# Altium integrated library Gennum Video Multiplexer.IntLib: 22 symbols
Pins are listed as number, name and electrical type; pins without a type are passive.

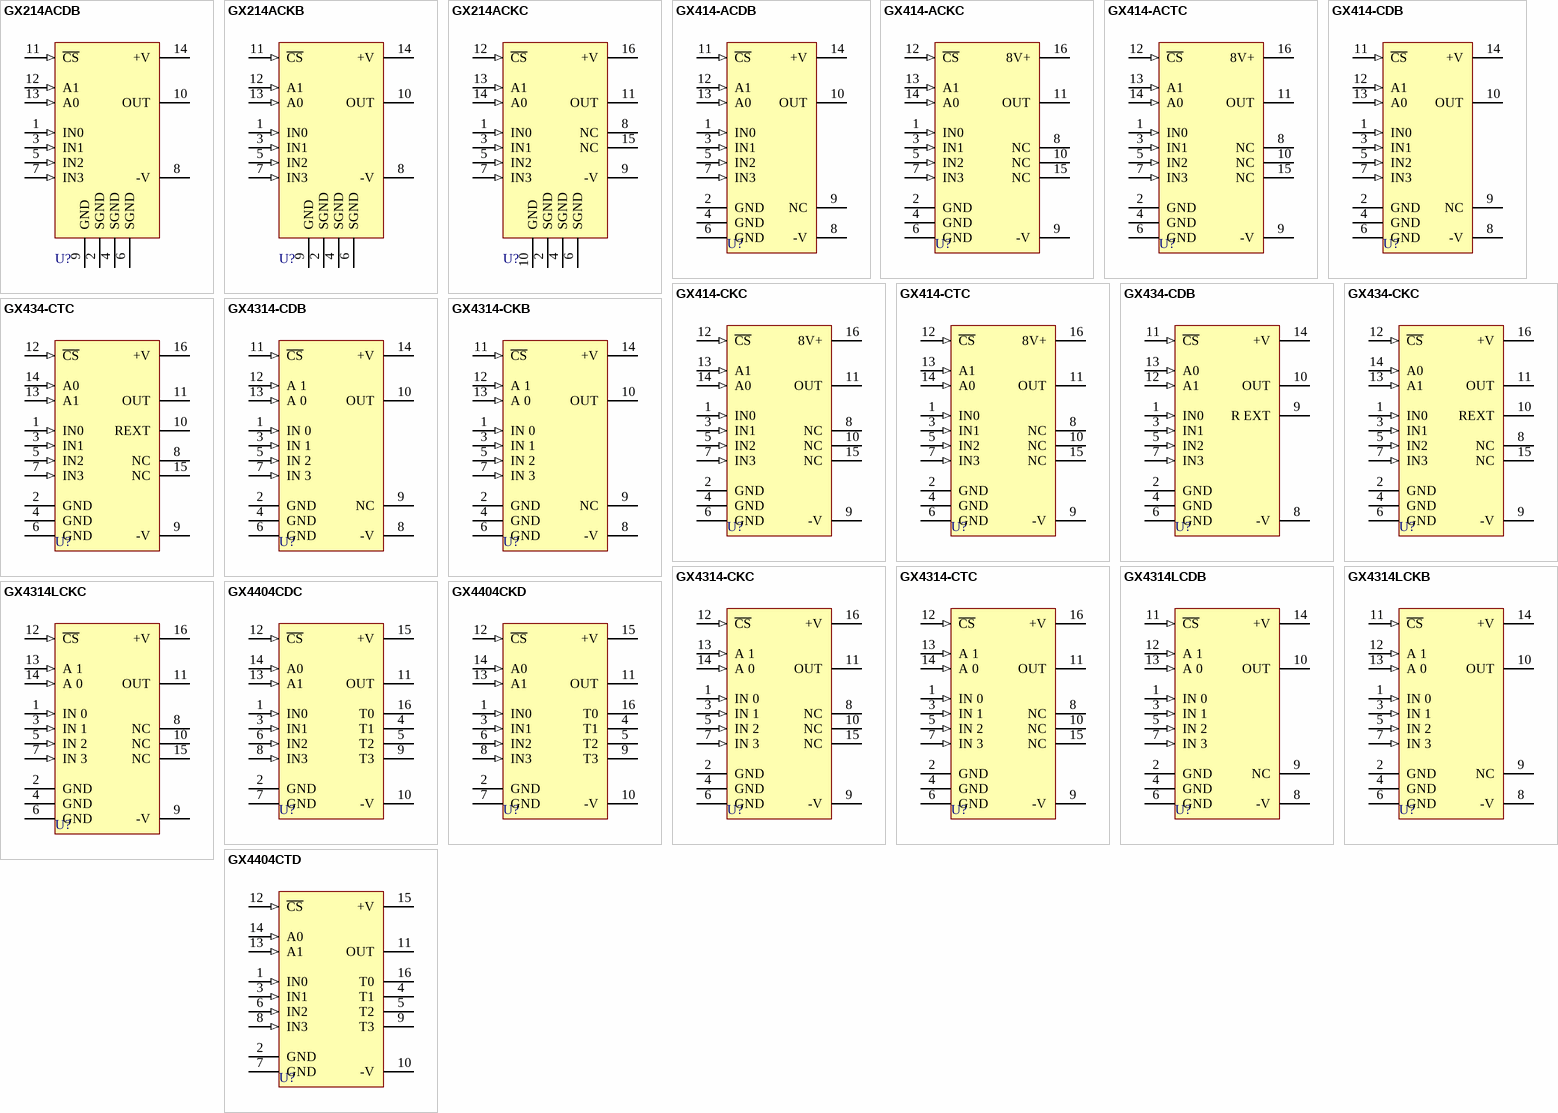
[diagram p0: symbols GX214ACDB to GX4404CTD]

## GX214ACDB
designator U?
Monolithic 4x1 Video Multiplexer; Note: pins 2,4 and 6 must be joined together; Published: 8-Jun-2000; LatestRevisionDate: 04-Mar-2005; LatestRevisionNote: Stylized 3D Model Added.; DatasheetVersion: Feb-1993; PackageVersion: 1999; PackageReference: PDIP14; Publisher: Altium Limited; PackageDescription: DIP; 14 Leads; Row Spacing 7.62 mm; Pitch 2.54 mm; ComponentLink1Description: Manufacturer Link; ComponentLink1URL: http://www.gennum.com/index.html; ComponentLink2Description: Datasheet; ComponentLink2URL: http://www.gennum.com/vb/pdffiles/52005DOC.pdf
footprint PDIP14 (DIP; 14 Leads; Row Spacing 7.62 mm; Pitch 2.54 mm)
3D model PDIP14 (DIP; 14 Leads; Row Spacing 7.62 mm; Pitch 2.54 mm)
pins: 1 IN0 (in), 2 SGND (power), 3 IN1 (in), 4 SGND (power), 5 IN2 (in), 6 SGND (power), 7 IN3 (in), 8 -V (power), 9 GND (power), 10 OUT (hiz), 11 ~{CS} (in), 12 A1 (in), 13 A0 (in), 14 +V (power)

## GX214ACKB
designator U?
Monolithic 4x1 Video Multiplexer; Note: pins 2,4 and 6 must be joined together; Published: 8-Jun-2000; LatestRevisionDate: 13-Apr-2006; LatestRevisionNote: IPC-7351 Footprint Added.; DatasheetVersion: Feb-1993; PackageReference: SOIC14; Publisher: Altium Limited; PackageDescription: 14-Pin Small Outline Integrated Circuit 1.27 mm Pitch; Code_JEDEC: MS-012-AB; Code_IPC: SOIC127P600-14; ComponentLink1Description: Manufacturer Link; ComponentLink1URL: http://www.gennum.com/index.html; ComponentLink2Description: Datasheet; ComponentLink2URL: http://www.gennum.com/vb/pdffiles/52005DOC.pdf
footprint SOIC14_N (SOIC, 14-Leads, Body 8.7x3.9mm, Pitch 1.27mm, IPC Medium Density)
footprint SOIC14_L (SOIC, 14-Leads, Body 8.7x3.9mm, Pitch 1.27mm, IPC High Density)
footprint SOIC14_M (SOIC, 14-Leads, Body 8.7x3.9mm, Pitch 1.27mm, IPC Low Density)
3D model SOIC14 (14-Pin Small Outline Integrated Circuit 1.27 mm Pitch)
pins: 1 IN0 (in), 2 SGND (power), 3 IN1 (in), 4 SGND (power), 5 IN2 (in), 6 SGND (power), 7 IN3 (in), 8 -V (power), 9 GND (power), 10 OUT (hiz), 11 ~{CS} (in), 12 A1 (in), 13 A0 (in), 14 +V (power)

## GX214ACKC
designator U?
Monolithic 4x1 Video Multiplexer; Note: pins 2,4 and 6 must be joined together; Published: 8-Jun-2000; LatestRevisionDate: 13-Apr-2006; LatestRevisionNote: IPC-7351 Footprint Added.; DatasheetVersion: Feb-1993; PackageReference: SOIC16; Publisher: Altium Limited; PackageDescription: 16-Pin Small Outline Integrated Circuit 1.27 mm Pitch; Code_JEDEC: MS-012-AC; Code_IPC: SOIC127P600-16; ComponentLink1Description: Manufacturer Link; ComponentLink1URL: http://www.gennum.com/index.html; ComponentLink2Description: Datasheet; ComponentLink2URL: http://www.gennum.com/vb/pdffiles/52005DOC.pdf
footprint SOIC16_N (SOIC, 16-Leads, Body 9.9x3.9mm, Pitch 1.27mm, IPC Medium Density)
footprint SOIC16_L (SOIC, 16-Leads, Body 9.9x3.9mm, Pitch 1.27mm, IPC High Density)
footprint SOIC16_M (SOIC, 16-Leads, Body 9.9x3.9mm, Pitch 1.27mm, IPC Low Density)
3D model SOIC16 (16-Pin Small Outline Integrated Circuit 1.27 mm Pitch)
pins: 1 IN0 (in), 2 SGND (power), 3 IN1 (in), 4 SGND (power), 5 IN2 (in), 6 SGND (power), 7 IN3 (in), 8 NC, 9 -V (power), 10 GND (power), 11 OUT (hiz), 12 ~{CS} (in), 13 A1 (in), 14 A0 (in), 15 NC, 16 +V (power)

## GX414-ACDB
designator U?
Monolithic 4x1 Video Multiplexer; Note: pin 9 is No Connection; Published: 8-Jun-2000; LatestRevisionDate: 04-Mar-2005; LatestRevisionNote: Stylized 3D Model Added.; PackageVersion: 1999; PackageReference: PDIP14; Publisher: Altium Limited; PackageDescription: DIP; 14 Leads; Row Spacing 7.62 mm; Pitch 2.54 mm; ComponentLink1Description: Manufacturer Link; ComponentLink1URL: http://www.gennum.com/index.html; ComponentLink2Description: Application Note; ComponentLink2URL: http://www.gennum.com/vb/pdffiles/51039DOC.pdf
footprint PDIP14 (DIP; 14 Leads; Row Spacing 7.62 mm; Pitch 2.54 mm)
3D model PDIP14 (DIP; 14 Leads; Row Spacing 7.62 mm; Pitch 2.54 mm)
pins: 1 IN0 (in), 2 GND (power), 3 IN1 (in), 4 GND (power), 5 IN2 (in), 6 GND (power), 7 IN3 (in), 8 -V (power), 9 NC, 10 OUT (hiz), 11 ~{CS} (in), 12 A1 (in), 13 A0 (in), 14 +V (power)

## GX414-ACKC
designator U?
Monolithic 4x1 Video Multiplexer; Note: Pins 8,10,15 are No Connection; Published: 8-Jun-2000; LatestRevisionDate: 13-Apr-2006; LatestRevisionNote: IPC-7351 Footprint Added.; PackageReference: SOIC16; Publisher: Altium Limited; PackageDescription: 16-Pin Small Outline Integrated Circuit 1.27 mm Pitch; Code_JEDEC: MS-012-AC; Code_IPC: SOIC127P600-16; ComponentLink1Description: Manufacturer Link; ComponentLink1URL: http://www.gennum.com/index.html; ComponentLink2Description: Application Note; ComponentLink2URL: http://www.gennum.com/vb/pdffiles/51039DOC.pdf
footprint SOIC16_N (SOIC, 16-Leads, Body 9.9x3.9mm, Pitch 1.27mm, IPC Medium Density)
footprint SOIC16_L (SOIC, 16-Leads, Body 9.9x3.9mm, Pitch 1.27mm, IPC High Density)
footprint SOIC16_M (SOIC, 16-Leads, Body 9.9x3.9mm, Pitch 1.27mm, IPC Low Density)
3D model SOIC16 (16-Pin Small Outline Integrated Circuit 1.27 mm Pitch)
pins: 1 IN0 (in), 2 GND (power), 3 IN1 (in), 4 GND (power), 5 IN2 (in), 6 GND (power), 7 IN3 (in), 8 NC, 9 -V (power), 10 NC, 11 OUT (hiz), 12 ~{CS} (in), 13 A1 (in), 14 A0 (in), 15 NC, 16 8V+ (power)

## GX414-ACTC
designator U?
Monolithic 4x1 Video Multiplexer; Note: Pins 8,10,15 are No Connection; Published: 8-Jun-2000; LatestRevisionDate: 13-Apr-2006; LatestRevisionNote: IPC-7351 Footprint Added.; PackageReference: SOIC16T; Publisher: Altium Limited; PackageDescription: 16-Pin Small Outline Integrated Circuit 1.27 mm Pitch; Code_JEDEC: MS-012-AC; Code_IPC: SOIC127P600-16; ComponentLink1Description: Manufacturer Link; ComponentLink1URL: http://www.gennum.com/index.html; ComponentLink2Description: Application Note; ComponentLink2URL: http://www.gennum.com/vb/pdffiles/51039DOC.pdf
footprint SOIC16T_N (SOIC, 16-Leads, Body 9.9x3.9mm, Pitch 1.27mm, IPC Medium Density)
footprint SOIC16T_L (SOIC, 16-Leads, Body 9.9x3.9mm, Pitch 1.27mm, IPC High Density)
footprint SOIC16T_M (SOIC, 16-Leads, Body 9.9x3.9mm, Pitch 1.27mm, IPC Low Density)
3D model SOIC16 (16-Pin Small Outline Integrated Circuit 1.27 mm Pitch)
pins: 1 IN0 (in), 2 GND (power), 3 IN1 (in), 4 GND (power), 5 IN2 (in), 6 GND (power), 7 IN3 (in), 8 NC, 9 -V (power), 10 NC, 11 OUT (hiz), 12 ~{CS} (in), 13 A1 (in), 14 A0 (in), 15 NC, 16 8V+ (power)

## GX414-CDB
designator U?
Monolithic 4x1 Video Multiplexer; Note: pin 9 is No Connection; Published: 8-Jun-2000; LatestRevisionDate: 04-Mar-2005; LatestRevisionNote: Stylized 3D Model Added.; PackageVersion: 1999; PackageReference: PDIP14; Publisher: Altium Limited; PackageDescription: DIP; 14 Leads; Row Spacing 7.62 mm; Pitch 2.54 mm; ComponentLink1Description: Manufacturer Link; ComponentLink1URL: http://www.gennum.com/index.html; ComponentLink2Description: Application Note; ComponentLink2URL: http://www.gennum.com/vb/pdffiles/51039DOC.pdf
footprint PDIP14 (DIP; 14 Leads; Row Spacing 7.62 mm; Pitch 2.54 mm)
3D model PDIP14 (DIP; 14 Leads; Row Spacing 7.62 mm; Pitch 2.54 mm)
pins: 1 IN0 (in), 2 GND (power), 3 IN1 (in), 4 GND (power), 5 IN2 (in), 6 GND (power), 7 IN3 (in), 8 -V (power), 9 NC, 10 OUT (hiz), 11 ~{CS} (in), 12 A1 (in), 13 A0 (in), 14 +V (power)

## GX414-CKC
designator U?
Monolithic 4x1 Video Multiplexer; Note: Pins 8,10,15 are No Connection; Published: 8-Jun-2000; LatestRevisionDate: 13-Apr-2006; LatestRevisionNote: IPC-7351 Footprint Added.; PackageReference: SOIC16; Publisher: Altium Limited; PackageDescription: 16-Pin Small Outline Integrated Circuit 1.27 mm Pitch; Code_JEDEC: MS-012-AC; Code_IPC: SOIC127P600-16; ComponentLink1Description: Manufacturer Link; ComponentLink1URL: http://www.gennum.com/index.html; ComponentLink2Description: Application Note; ComponentLink2URL: http://www.gennum.com/vb/pdffiles/51039DOC.pdf
footprint SOIC16_N (SOIC, 16-Leads, Body 9.9x3.9mm, Pitch 1.27mm, IPC Medium Density)
footprint SOIC16_L (SOIC, 16-Leads, Body 9.9x3.9mm, Pitch 1.27mm, IPC High Density)
footprint SOIC16_M (SOIC, 16-Leads, Body 9.9x3.9mm, Pitch 1.27mm, IPC Low Density)
3D model SOIC16 (16-Pin Small Outline Integrated Circuit 1.27 mm Pitch)
pins: 1 IN0 (in), 2 GND (power), 3 IN1 (in), 4 GND (power), 5 IN2 (in), 6 GND (power), 7 IN3 (in), 8 NC, 9 -V (power), 10 NC, 11 OUT (hiz), 12 ~{CS} (in), 13 A1 (in), 14 A0 (in), 15 NC, 16 8V+ (power)

## GX414-CTC
designator U?
Monolithic 4x1 Video Multiplexer; Note: Pins 8,10,15 are No Connection; Published: 8-Jun-2000; LatestRevisionDate: 13-Apr-2006; LatestRevisionNote: IPC-7351 Footprint Added.; PackageReference: SOIC16T; Publisher: Altium Limited; PackageDescription: 16-Pin Small Outline Integrated Circuit 1.27 mm Pitch; Code_JEDEC: MS-012-AC; Code_IPC: SOIC127P600-16; ComponentLink1Description: Manufacturer Link; ComponentLink1URL: http://www.gennum.com/index.html; ComponentLink2Description: Application Note; ComponentLink2URL: http://www.gennum.com/vb/pdffiles/51039DOC.pdf
footprint SOIC16T_N (SOIC, 16-Leads, Body 9.9x3.9mm, Pitch 1.27mm, IPC Medium Density)
footprint SOIC16T_L (SOIC, 16-Leads, Body 9.9x3.9mm, Pitch 1.27mm, IPC High Density)
footprint SOIC16T_M (SOIC, 16-Leads, Body 9.9x3.9mm, Pitch 1.27mm, IPC Low Density)
3D model SOIC16 (16-Pin Small Outline Integrated Circuit 1.27 mm Pitch)
pins: 1 IN0 (in), 2 GND (power), 3 IN1 (in), 4 GND (power), 5 IN2 (in), 6 GND (power), 7 IN3 (in), 8 NC, 9 -V (power), 10 NC, 11 OUT (hiz), 12 ~{CS} (in), 13 A1 (in), 14 A0 (in), 15 NC, 16 8V+ (power)

## GX434-CDB
designator U?
Monolithic 4x1 Video Multiplexer; Published: 8-Jun-2000; LatestRevisionDate: 04-Mar-2005; LatestRevisionNote: Stylized 3D Model Added.; DatasheetVersion: Jan-1993; PackageVersion: 1999; PackageReference: PDIP14; Publisher: Altium Limited; PackageDescription: DIP; 14 Leads; Row Spacing 7.62 mm; Pitch 2.54 mm; ComponentLink1Description: Manufacturer Link; ComponentLink1URL: http://www.gennum.com/index.html; ComponentLink2Description: Datasheet; ComponentLink2URL: http://www.gennum.com/vb/pdffiles/51034DOC.pdf
footprint PDIP14 (DIP; 14 Leads; Row Spacing 7.62 mm; Pitch 2.54 mm)
3D model PDIP14 (DIP; 14 Leads; Row Spacing 7.62 mm; Pitch 2.54 mm)
pins: 1 IN0 (in), 2 GND (power), 3 IN1 (in), 4 GND (power), 5 IN2 (in), 6 GND (power), 7 IN3 (in), 8 -V (power), 9 R EXT, 10 OUT (hiz), 11 ~{CS} (in), 12 A1 (in), 13 A0 (in), 14 +V (power)

## GX434-CKC
designator U?
Monolithic 4x1 Video Multiplexer; Note: Pins 8,15 are No Connection; Published: 8-Jun-2000; LatestRevisionDate: 13-Apr-2006; LatestRevisionNote: IPC-7351 Footprint Added.; DatasheetVersion: Jan-1993; PackageReference: SOIC16; Publisher: Altium Limited; PackageDescription: 16-Pin Small Outline Integrated Circuit 1.27 mm Pitch; Code_JEDEC: MS-012-AC; Code_IPC: SOIC127P600-16; ComponentLink1Description: Manufacturer Link; ComponentLink1URL: http://www.gennum.com/index.html; ComponentLink2Description: Datasheet; ComponentLink2URL: http://www.gennum.com/vb/pdffiles/51034DOC.pdf
footprint SOIC16_N (SOIC, 16-Leads, Body 9.9x3.9mm, Pitch 1.27mm, IPC Medium Density)
footprint SOIC16_L (SOIC, 16-Leads, Body 9.9x3.9mm, Pitch 1.27mm, IPC High Density)
footprint SOIC16_M (SOIC, 16-Leads, Body 9.9x3.9mm, Pitch 1.27mm, IPC Low Density)
3D model SOIC16 (16-Pin Small Outline Integrated Circuit 1.27 mm Pitch)
pins: 1 IN0 (in), 2 GND (power), 3 IN1 (in), 4 GND (power), 5 IN2 (in), 6 GND (power), 7 IN3 (in), 8 NC, 9 -V (power), 10 REXT, 11 OUT (hiz), 12 ~{CS} (in), 13 A1 (in), 14 A0 (in), 15 NC, 16 +V (power)

## GX434-CTC
designator U?
Monolithic 4x1 Video Multiplexer; Note: Pins 8,15 are No Connection; Published: 8-Jun-2000; LatestRevisionDate: 13-Apr-2006; LatestRevisionNote: IPC-7351 Footprint Added.; DatasheetVersion: Jan-1993; PackageReference: SOIC16T; Publisher: Altium Limited; PackageDescription: 16-Pin Small Outline Integrated Circuit 1.27 mm Pitch; Code_JEDEC: MS-012-AC; Code_IPC: SOIC127P600-16; ComponentLink1Description: Manufacturer Link; ComponentLink1URL: http://www.gennum.com/index.html; ComponentLink2Description: Datasheet; ComponentLink2URL: http://www.gennum.com/vb/pdffiles/51034DOC.pdf
footprint SOIC16T_N (SOIC, 16-Leads, Body 9.9x3.9mm, Pitch 1.27mm, IPC Medium Density)
footprint SOIC16T_L (SOIC, 16-Leads, Body 9.9x3.9mm, Pitch 1.27mm, IPC High Density)
footprint SOIC16T_M (SOIC, 16-Leads, Body 9.9x3.9mm, Pitch 1.27mm, IPC Low Density)
3D model SOIC16 (16-Pin Small Outline Integrated Circuit 1.27 mm Pitch)
pins: 1 IN0 (in), 2 GND (power), 3 IN1 (in), 4 GND (power), 5 IN2 (in), 6 GND (power), 7 IN3 (in), 8 NC, 9 -V (power), 10 REXT, 11 OUT (hiz), 12 ~{CS} (in), 13 A1 (in), 14 A0 (in), 15 NC, 16 +V (power)

## GX4314-CDB
designator U?
Wideband, Monolithic 4x1 Video Multiplexer; Note: pin 9 is No Connection; Published: 8-Jun-2000; LatestRevisionDate: 04-Mar-2005; LatestRevisionNote: Stylized 3D Model Added.; DatasheetVersion: Dec-1993; PackageVersion: 1999; PackageReference: PDIP14; Publisher: Altium Limited; PackageDescription: DIP; 14 Leads; Row Spacing 7.62 mm; Pitch 2.54 mm; ComponentLink1Description: Manufacturer Link; ComponentLink1URL: http://www.gennum.com/index.html; ComponentLink2Description: Datasheet; ComponentLink2URL: http://www.gennum.com/vb/pdffiles/52042DOC.pdf
footprint PDIP14 (DIP; 14 Leads; Row Spacing 7.62 mm; Pitch 2.54 mm)
3D model PDIP14 (DIP; 14 Leads; Row Spacing 7.62 mm; Pitch 2.54 mm)
pins: 1 IN 0 (in), 2 GND (power), 3 IN 1 (in), 4 GND (power), 5 IN 2 (in), 6 GND (power), 7 IN 3 (in), 8 -V (power), 9 NC, 10 OUT (hiz), 11 ~{CS} (in), 12 A 1 (in), 13 A 0 (in), 14 +V (power)

## GX4314-CKB
designator U?
Wideband, Monolithic 4x1 Video Multiplexer; Note: pin 9 is No Connection; Published: 8-Jun-2000; LatestRevisionDate: 13-Apr-2006; LatestRevisionNote: IPC-7351 Footprint Added.; DatasheetVersion: Dec-1993; PackageReference: SOIC14; Publisher: Altium Limited; PackageDescription: 14-Pin Small Outline Integrated Circuit 1.27 mm Pitch; Code_JEDEC: MS-012-AB; Code_IPC: SOIC127P600-14; ComponentLink1Description: Manufacturer Link; ComponentLink1URL: http://www.gennum.com/index.html; ComponentLink2Description: Datasheet; ComponentLink2URL: http://www.gennum.com/vb/pdffiles/52042DOC.pdf
footprint SOIC14_N (SOIC, 14-Leads, Body 8.7x3.9mm, Pitch 1.27mm, IPC Medium Density)
footprint SOIC14_L (SOIC, 14-Leads, Body 8.7x3.9mm, Pitch 1.27mm, IPC High Density)
footprint SOIC14_M (SOIC, 14-Leads, Body 8.7x3.9mm, Pitch 1.27mm, IPC Low Density)
3D model SOIC14 (14-Pin Small Outline Integrated Circuit 1.27 mm Pitch)
pins: 1 IN 0 (in), 2 GND (power), 3 IN 1 (in), 4 GND (power), 5 IN 2 (in), 6 GND (power), 7 IN 3 (in), 8 -V (power), 9 NC, 10 OUT (hiz), 11 ~{CS} (in), 12 A 1 (in), 13 A 0 (in), 14 +V (power)

## GX4314-CKC
designator U?
Wideband, Monolithic 4x1 Video Multiplexer; Note: Pins 8,10,15 are No Connection; Published: 8-Jun-2000; LatestRevisionDate: 13-Apr-2006; LatestRevisionNote: IPC-7351 Footprint Added.; DatasheetVersion: Dec-1993; PackageReference: SOIC16; Publisher: Altium Limited; PackageDescription: 16-Pin Small Outline Integrated Circuit 1.27 mm Pitch; Code_JEDEC: MS-012-AC; Code_IPC: SOIC127P600-16; ComponentLink1Description: Manufacturer Link; ComponentLink1URL: http://www.gennum.com/index.html; ComponentLink2Description: Datasheet; ComponentLink2URL: http://www.gennum.com/vb/pdffiles/52042DOC.pdf
footprint SOIC16_N (SOIC, 16-Leads, Body 9.9x3.9mm, Pitch 1.27mm, IPC Medium Density)
footprint SOIC16_L (SOIC, 16-Leads, Body 9.9x3.9mm, Pitch 1.27mm, IPC High Density)
footprint SOIC16_M (SOIC, 16-Leads, Body 9.9x3.9mm, Pitch 1.27mm, IPC Low Density)
3D model SOIC16 (16-Pin Small Outline Integrated Circuit 1.27 mm Pitch)
pins: 1 IN 0 (in), 2 GND (power), 3 IN 1 (in), 4 GND (power), 5 IN 2 (in), 6 GND (power), 7 IN 3 (in), 8 NC, 9 -V (power), 10 NC, 11 OUT (hiz), 12 ~{CS} (in), 13 A 1 (in), 14 A 0 (in), 15 NC, 16 +V (power)

## GX4314-CTC
designator U?
Wideband, Monolithic 4x1 Video Multiplexer; Note: Pins 8,10,15 are No Connection; Published: 8-Jun-2000; LatestRevisionDate: 13-Apr-2006; LatestRevisionNote: IPC-7351 Footprint Added.; DatasheetVersion: Dec-1993; PackageReference: SOIC16T; Publisher: Altium Limited; PackageDescription: 16-Pin Small Outline Integrated Circuit 1.27 mm Pitch; Code_JEDEC: MS-012-AC; Code_IPC: SOIC127P600-16; ComponentLink1Description: Manufacturer Link; ComponentLink1URL: http://www.gennum.com/index.html; ComponentLink2Description: Datasheet; ComponentLink2URL: http://www.gennum.com/vb/pdffiles/52042DOC.pdf
footprint SOIC16T_N (SOIC, 16-Leads, Body 9.9x3.9mm, Pitch 1.27mm, IPC Medium Density)
footprint SOIC16T_L (SOIC, 16-Leads, Body 9.9x3.9mm, Pitch 1.27mm, IPC High Density)
footprint SOIC16T_M (SOIC, 16-Leads, Body 9.9x3.9mm, Pitch 1.27mm, IPC Low Density)
3D model SOIC16 (16-Pin Small Outline Integrated Circuit 1.27 mm Pitch)
pins: 1 IN 0 (in), 2 GND (power), 3 IN 1 (in), 4 GND (power), 5 IN 2 (in), 6 GND (power), 7 IN 3 (in), 8 NC, 9 -V (power), 10 NC, 11 OUT (hiz), 12 ~{CS} (in), 13 A 1 (in), 14 A 0 (in), 15 NC, 16 +V (power)

## GX4314LCDB
designator U?
Low Power,Wideband 4x1 video Multiplexer; Note: pin 9 is No Connection; Published: 8-Jun-2000; LatestRevisionDate: 04-Mar-2005; LatestRevisionNote: Stylized 3D Model Added.; PackageVersion: 1999; PackageReference: PDIP14; Publisher: Altium Limited; PackageDescription: DIP; 14 Leads; Row Spacing 7.62 mm; Pitch 2.54 mm; ComponentLink1Description: Manufacturer Link; ComponentLink1URL: http://www.gennum.com/index.html; ComponentLink2Description: Datasheet; ComponentLink2URL: http://www.gennum.com/vb/pdffiles/52054DOC.pdf
footprint PDIP14 (DIP; 14 Leads; Row Spacing 7.62 mm; Pitch 2.54 mm)
3D model PDIP14 (DIP; 14 Leads; Row Spacing 7.62 mm; Pitch 2.54 mm)
pins: 1 IN 0 (in), 2 GND (power), 3 IN 1 (in), 4 GND (power), 5 IN 2 (in), 6 GND (power), 7 IN 3 (in), 8 -V (power), 9 NC, 10 OUT (hiz), 11 ~{CS} (in), 12 A 1 (in), 13 A 0 (in), 14 +V (power)

## GX4314LCKB
designator U?
Low Power,Wideband 4x1 video Multiplexer; Note: pin 9 is No Connection; Published: 8-Jun-2000; LatestRevisionDate: 13-Apr-2006; LatestRevisionNote: IPC-7351 Footprint Added.; PackageReference: SOIC14; Publisher: Altium Limited; PackageDescription: 14-Pin Small Outline Integrated Circuit 1.27 mm Pitch; Code_JEDEC: MS-012-AB; Code_IPC: SOIC127P600-14; ComponentLink1Description: Manufacturer Link; ComponentLink1URL: http://www.gennum.com/index.html; ComponentLink2Description: Datasheet; ComponentLink2URL: http://www.gennum.com/vb/pdffiles/52054DOC.pdf
footprint SOIC14_N (SOIC, 14-Leads, Body 8.7x3.9mm, Pitch 1.27mm, IPC Medium Density)
footprint SOIC14_L (SOIC, 14-Leads, Body 8.7x3.9mm, Pitch 1.27mm, IPC High Density)
footprint SOIC14_M (SOIC, 14-Leads, Body 8.7x3.9mm, Pitch 1.27mm, IPC Low Density)
3D model SOIC14 (14-Pin Small Outline Integrated Circuit 1.27 mm Pitch)
pins: 1 IN 0 (in), 2 GND (power), 3 IN 1 (in), 4 GND (power), 5 IN 2 (in), 6 GND (power), 7 IN 3 (in), 8 -V (power), 9 NC, 10 OUT (hiz), 11 ~{CS} (in), 12 A 1 (in), 13 A 0 (in), 14 +V (power)

## GX4314LCKC
designator U?
Low Power,Wideband 4x1 video Multiplexer; Note: Pins 8,10,15 are No Connection; Published: 8-Jun-2000; LatestRevisionDate: 13-Apr-2006; LatestRevisionNote: IPC-7351 Footprint Added.; PackageReference: SOIC16; Publisher: Altium Limited; PackageDescription: 16-Pin Small Outline Integrated Circuit 1.27 mm Pitch; Code_JEDEC: MS-012-AC; Code_IPC: SOIC127P600-16; ComponentLink1Description: Manufacturer Link; ComponentLink1URL: http://www.gennum.com/index.html; ComponentLink2Description: Datasheet; ComponentLink2URL: http://www.gennum.com/vb/pdffiles/52054DOC.pdf
footprint SOIC16_N (SOIC, 16-Leads, Body 9.9x3.9mm, Pitch 1.27mm, IPC Medium Density)
footprint SOIC16_L (SOIC, 16-Leads, Body 9.9x3.9mm, Pitch 1.27mm, IPC High Density)
footprint SOIC16_M (SOIC, 16-Leads, Body 9.9x3.9mm, Pitch 1.27mm, IPC Low Density)
3D model SOIC16 (16-Pin Small Outline Integrated Circuit 1.27 mm Pitch)
pins: 1 IN 0 (in), 2 GND (power), 3 IN 1 (in), 4 GND (power), 5 IN 2 (in), 6 GND (power), 7 IN 3 (in), 8 NC, 9 -V (power), 10 NC, 11 OUT (hiz), 12 ~{CS} (in), 13 A 1 (in), 14 A 0 (in), 15 NC, 16 +V (power)

## GX4404CDC
designator U?
Wideband, Monolithic 4x1 Video Multiplexer; Published: 8-Jun-2000; LatestRevisionDate: 04-Mar-2005; LatestRevisionNote: Stylized 3D Model Added.; DatasheetVersion: Jan-1993; PackageVersion: 1999; PackageReference: PDIP16; Publisher: Altium Limited; PackageDescription: DIP; 16 Leads; Row Spacing 7.62 mm; Pitch 2.54 mm; ComponentLink1Description: Manufacturer Link; ComponentLink1URL: http://www.gennum.com/index.html; ComponentLink2Description: Datasheet; ComponentLink2URL: http://www.gennum.com/vb/pdffiles/52043DOC.pdf
footprint PDIP16 (DIP; 16 Leads; Row Spacing 7.62 mm; Pitch 2.54 mm)
3D model PDIP16 (DIP; 16 Leads; Row Spacing 7.62 mm; Pitch 2.54 mm)
pins: 1 IN0 (in), 2 GND (power), 3 IN1 (in), 4 T1 (hiz), 5 T2 (hiz), 6 IN2 (in), 7 GND (power), 8 IN3 (in), 9 T3 (hiz), 10 -V (power), 11 OUT (hiz), 12 ~{CS} (in), 13 A1 (in), 14 A0 (in), 15 +V (power), 16 T0 (hiz)

## GX4404CKD
designator U?
Wideband, Monolithic 4x1 Video Multiplexer; Published: 8-Jun-2000; LatestRevisionDate: 13-Apr-2006; LatestRevisionNote: IPC-7351 Footprint Added.; DatasheetVersion: Jan-1993; PackageReference: SOIC16; Publisher: Altium Limited; PackageDescription: 16-Pin Small Outline Integrated Circuit 1.27 mm Pitch; Code_JEDEC: MS-012-AC; Code_IPC: SOIC127P600-16; ComponentLink1Description: Manufacturer Link; ComponentLink1URL: http://www.gennum.com/index.html; ComponentLink2Description: Datasheet; ComponentLink2URL: http://www.gennum.com/vb/pdffiles/52043DOC.pdf
footprint SOIC16_N (SOIC, 16-Leads, Body 9.9x3.9mm, Pitch 1.27mm, IPC Medium Density)
footprint SOIC16_L (SOIC, 16-Leads, Body 9.9x3.9mm, Pitch 1.27mm, IPC High Density)
footprint SOIC16_M (SOIC, 16-Leads, Body 9.9x3.9mm, Pitch 1.27mm, IPC Low Density)
3D model SOIC16 (16-Pin Small Outline Integrated Circuit 1.27 mm Pitch)
pins: 1 IN0 (in), 2 GND (power), 3 IN1 (in), 4 T1 (hiz), 5 T2 (hiz), 6 IN2 (in), 7 GND (power), 8 IN3 (in), 9 T3 (hiz), 10 -V (power), 11 OUT (hiz), 12 ~{CS} (in), 13 A1 (in), 14 A0 (in), 15 +V (power), 16 T0 (hiz)

## GX4404CTD
designator U?
Wideband, Monolithic 4x1 Video Multiplexer; Published: 8-Jun-2000; LatestRevisionDate: 13-Apr-2006; LatestRevisionNote: IPC-7351 Footprint Added.; DatasheetVersion: Jan-1993; PackageReference: SOIC16T; Publisher: Altium Limited; PackageDescription: 16-Pin Small Outline Integrated Circuit 1.27 mm Pitch; Code_JEDEC: MS-012-AC; Code_IPC: SOIC127P600-16; ComponentLink1Description: Manufacturer Link; ComponentLink1URL: http://www.gennum.com/index.html; ComponentLink2Description: Datasheet; ComponentLink2URL: http://www.gennum.com/vb/pdffiles/52043DOC.pdf
footprint SOIC16T_N (SOIC, 16-Leads, Body 9.9x3.9mm, Pitch 1.27mm, IPC Medium Density)
footprint SOIC16T_L (SOIC, 16-Leads, Body 9.9x3.9mm, Pitch 1.27mm, IPC High Density)
footprint SOIC16T_M (SOIC, 16-Leads, Body 9.9x3.9mm, Pitch 1.27mm, IPC Low Density)
3D model SOIC16 (16-Pin Small Outline Integrated Circuit 1.27 mm Pitch)
pins: 1 IN0 (in), 2 GND (power), 3 IN1 (in), 4 T1 (hiz), 5 T2 (hiz), 6 IN2 (in), 7 GND (power), 8 IN3 (in), 9 T3 (hiz), 10 -V (power), 11 OUT (hiz), 12 ~{CS} (in), 13 A1 (in), 14 A0 (in), 15 +V (power), 16 T0 (hiz)